# Altium schematic symbol library CapChipCer.SchLib: 45 symbols
Pins are listed as number, name and electrical type; pins without a type are passive.

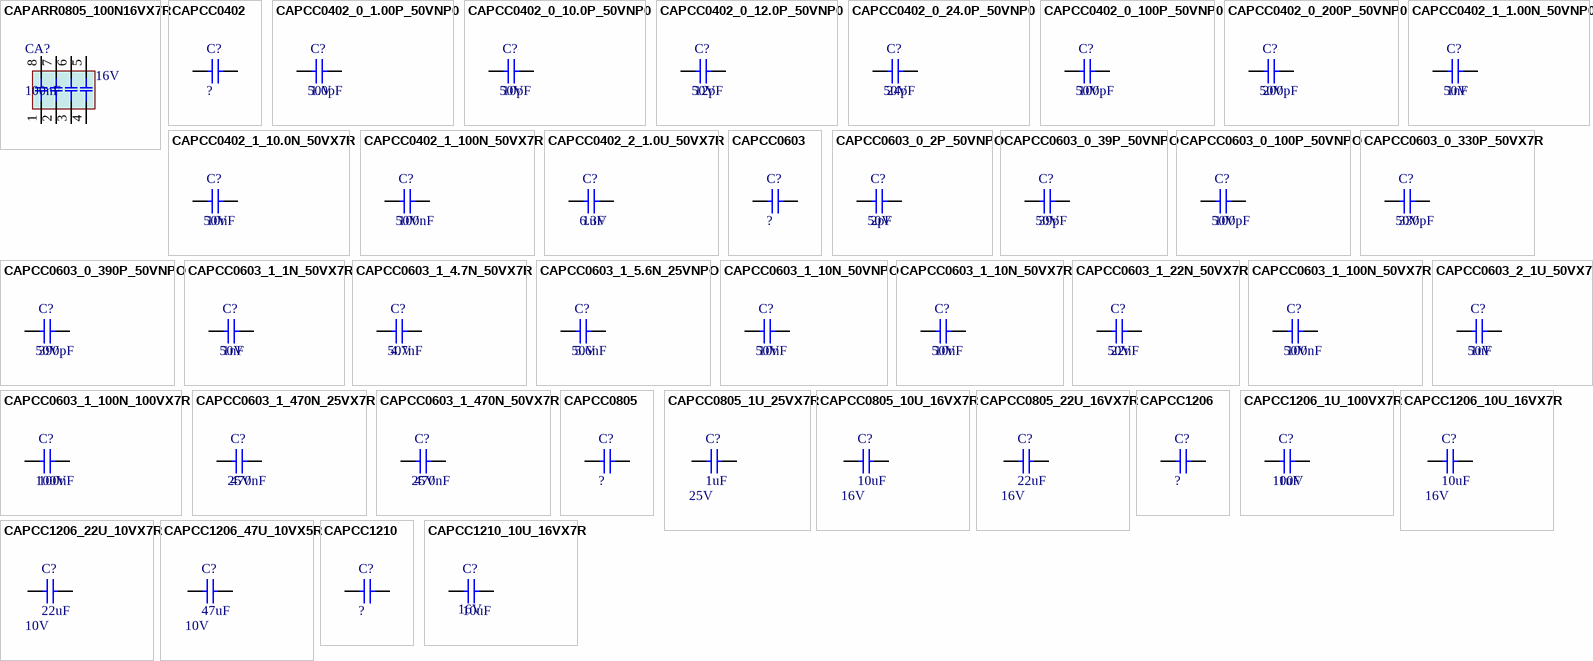
[diagram p0: symbols CAPARR0805_100N16VX7R to CAPCC1210_10U_16VX7R]

## CAPARR0805_100N16VX7R
designator CA?, comment 100nF  Voltage rating: 16V
Capacitor chip ceramic array(x4) 0805 16V X7R; Manufacturer: Murata; Manufacturer No: GNM214R71C104MA01D; Tech: SMDR; Package: Cap Chip Array 0805; Supplier 1: Newark; Supplier Part Number 1: 97K0564; Supplier 2: Digi-Key; Supplier Part Number 2: 490-6082-1-ND; Supplier 3: Mouser; Supplier Part Number 3: 81-GNM214R71C104MA1D
footprint CCAR0805 (Chip capacitor  array 0805)
pins: 1, 2, 3, 4, 5, 6, 7, 8

## CAPCC0402
designator C?, comment ?
Capacitor chip ceramic 0402; Comment2: xxV X7R; Sort: 210; Tech: SMDR; Package: Cap Chip 0402; Price: 0
footprint CC0402-1 (Chip kondenzator 0402)
signal-integrity model Model Name (Model Description)
footprint CC0402RF1 (Chip capacitor 0402 RF pad)
footprint CC0402RF1R (Chip capacitor 0402 RF ROUND pad)
pins: 1, 2

## CAPCC0402_0_1.00P_50VNP0
designator C?, comment 1.0pF  Voltage rating: 50V
Capacitor chip ceramic 0402 50V NPO; Manufacturer: Murata; Manufacturer No: GRM1555C1H1R0CA01D; Tech: SMDR; Package: Cap Chip 0402; Supplier 1: Digi-Key; Supplier Part Number 1: 490-3199-1-ND; Supplier 2: Newark; Supplier Part Number 2: 48W5732; Supplier 3: Mouser; Supplier Part Number 3: 81-GRM1555C1H1R0CA1D
signal-integrity model Model Name (Model Description)
footprint CC0402RF1 (Chip capacitor 0402 RF pad)
footprint CC0402RF1R (Chip capacitor 0402 RF ROUND pad)
footprint CC0402N1R (Chip capacitor 0402 ROUND pad)
footprint CC0402N1X (Chip capacitor 0402)
pins: 1, 2

## CAPCC0402_0_10.0P_50VNP0
designator C?, comment 10pF  Voltage rating: 50V
Capacitor chip ceramic 0402 50V NPO; Manufacturer: TDK; Manufacturer No: C1005C0G1H100D050BA; Tech: SMDR; Package: Cap Chip 0402; Supplier 1: Newark; Supplier Part Number 1: 90R7558; Supplier 2: Mouser; Supplier Part Number 2: 810-C1005C0G1H100D; Supplier 3: Digi-Key; Supplier Part Number 3: 445-1235-1-ND
signal-integrity model Model Name (Model Description)
footprint CC0402RF1 (Chip capacitor 0402 RF pad)
footprint CC0402RF1R (Chip capacitor 0402 RF ROUND pad)
footprint CC0402N1R (Chip capacitor 0402 ROUND pad)
footprint CC0402N1X (Chip capacitor 0402)
pins: 1, 2

## CAPCC0402_0_12.0P_50VNP0
designator C?, comment 12pF  Voltage rating: 50V
Capacitor chip ceramic 0402 50V NPO; Manufacturer: Johanson; Manufacturer No: 500R07S120GV4T; Tech: SMDR; Package: Cap Chip 0402; Supplier 1: Newark; Supplier Part Number 1: 41M1566; Supplier 2: Digi-Key; Supplier Part Number 2: 712-1256-1-ND; Supplier 3: Mouser; Supplier Part Number 3: 609-500R07S120GV4T
signal-integrity model Model Name (Model Description)
footprint CC0402RF1 (Chip capacitor 0402 RF pad)
footprint CC0402RF1R (Chip capacitor 0402 RF ROUND pad)
footprint CC0402N1R (Chip capacitor 0402 ROUND pad)
footprint CC0402N1X (Chip capacitor 0402)
pins: 1, 2

## CAPCC0402_0_24.0P_50VNP0
designator C?, comment 24pF  Voltage rating: 50V
Capacitor chip ceramic 0402 50V NPO; Manufacturer: Murata; Manufacturer No: GRM1555C1H240GA01D; Tech: SMDR; Package: Cap Chip 0402; Supplier 1: Mouser; Supplier Part Number 1: 81-GRM1555C1H240GA1D; Supplier 2: Digi-Key; Supplier Part Number 2: 490-6221-1-ND
signal-integrity model Model Name (Model Description)
footprint CC0402RF1 (Chip capacitor 0402 RF pad)
footprint CC0402RF1R (Chip capacitor 0402 RF ROUND pad)
footprint CC0402N1R (Chip capacitor 0402 ROUND pad)
footprint CC0402N1X (Chip capacitor 0402)
pins: 1, 2

## CAPCC0402_0_100P_50VNP0
designator C?, comment 100pF  Voltage rating: 50V
Capacitor chip ceramic 0402 50V NPO; Manufacturer: Murata; Manufacturer No: GRM1555C1H101JA01D; Tech: SMDR; Package: Cap Chip 0402; Supplier 1: Mouser; Supplier Part Number 1: 81-GRM1555C1H101JA1D; Supplier 2: Newark; Supplier Part Number 2: 48W5738; Supplier 3: Digi-Key; Supplier Part Number 3: 490-5922-1-ND
signal-integrity model Model Name (Model Description)
footprint CC0402RF1 (Chip capacitor 0402 RF pad)
footprint CC0402RF1R (Chip capacitor 0402 RF ROUND pad)
footprint CC0402N1R (Chip capacitor 0402 ROUND pad)
footprint CC0402N1X (Chip capacitor 0402)
pins: 1, 2

## CAPCC0402_0_200P_50VNP0
designator C?, comment 200pF  Voltage rating: 50V
Capacitor chip ceramic 0402 50V NPO; Manufacturer: Murata; Manufacturer No: GRM1555C1H201JA01D; Tech: SMDR; Package: Cap Chip 0402; Supplier 1: Digi-Key; Supplier Part Number 1: 490-3232-1-ND; Supplier 2: Newark; Supplier Part Number 2: 67R4594; Supplier 3: Mouser; Supplier Part Number 3: 81-GRM1555C1H201JA1D
signal-integrity model Model Name (Model Description)
footprint CC0402RF1 (Chip capacitor 0402 RF pad)
footprint CC0402RF1R (Chip capacitor 0402 RF ROUND pad)
footprint CC0402N1R (Chip capacitor 0402 ROUND pad)
footprint CC0402N1X (Chip capacitor 0402)
pins: 1, 2

## CAPCC0402_1_1.00N_50VNP0
designator C?, comment 1nF  Voltage rating: 50V
Capacitor chip ceramic 0402 50V NPO; Manufacturer: Murata; Manufacturer No: GRM1555C1H102JA01D; Tech: SMDR; Package: Cap Chip 0402; Supplier 1: Newark; Supplier Part Number 1: 38K1651; Supplier 2: Mouser; Supplier Part Number 2: 81-GRM1555C1H102JA1D; Supplier 3: Digi-Key; Supplier Part Number 3: 490-3244-1-ND
signal-integrity model Model Name (Model Description)
footprint CC0402RF1 (Chip capacitor 0402 RF pad)
footprint CC0402RF1R (Chip capacitor 0402 RF ROUND pad)
footprint CC0402N1R (Chip capacitor 0402 ROUND pad)
footprint CC0402N1X (Chip capacitor 0402)
pins: 1, 2

## CAPCC0402_1_10.0N_50VX7R
designator C?, comment 10nF  Voltage rating: 50V
Capacitor chip ceramic 0402 50V X7R; Manufacturer: Murata; Manufacturer No: GRM155R71H103KA88J; Tech: SMDR; Package: Cap Chip 0402; Supplier 1: Mouser; Supplier Part Number 1: 81-GRM155R71H103KA8J; Supplier 2: Newark; Supplier Part Number 2: 14T3284; Supplier 3: Digi-Key; Supplier Part Number 3: 490-6351-1-ND
signal-integrity model Model Name (Model Description)
footprint CC0402RF1 (Chip capacitor 0402 RF pad)
footprint CC0402RF1R (Chip capacitor 0402 RF ROUND pad)
footprint CC0402N1R (Chip capacitor 0402 ROUND pad)
footprint CC0402N1X (Chip capacitor 0402)
pins: 1, 2

## CAPCC0402_1_100N_50VX7R
designator C?, comment 100nF  Voltage rating: 50V
Capacitor chip ceramic 0402 50V X7R; Manufacturer: TDK; Manufacturer No: C1005X7R1H104K050BB; Tech: SMDR; Package: Cap Chip 0402; Supplier 1: Mouser; Supplier Part Number 1: 810-C1005X7R1H104K; Supplier 2: Digi-Key; Supplier Part Number 2: 445-5932-1-ND; Supplier 3: Newark; Supplier Part Number 3: 04X3230
signal-integrity model Model Name (Model Description)
footprint CC0402RF1 (Chip capacitor 0402 RF pad)
footprint CC0402RF1R (Chip capacitor 0402 RF ROUND pad)
footprint CC0402N1R (Chip capacitor 0402 ROUND pad)
footprint CC0402N1X (Chip capacitor 0402)
pins: 1, 2

## CAPCC0402_2_1.0U_50VX7R
designator C?, comment 1uF  Voltage rating: 6.3V
Capacitor chip ceramic 0402 6.3V X7R; Manufacturer: TDK; Manufacturer No: GRM155R70J105KA12D; Tech: SMDR; Package: Cap Chip 0402; Supplier 1: Mouser; Supplier Part Number 1: 81-GRM155R70J105KA2D; Supplier 2: Digi-Key; Supplier Part Number 2: 490-10024-6-ND
signal-integrity model Model Name (Model Description)
footprint CC0402RF1 (Chip capacitor 0402 RF pad)
footprint CC0402RF1R (Chip capacitor 0402 RF ROUND pad)
footprint CC0402N1R (Chip capacitor 0402 ROUND pad)
footprint CC0402N1X (Chip capacitor 0402)
pins: 1, 2

## CAPCC0603
designator C?, comment ?
Capacitor chip ceramic 0603; Comment2: xxV X7R; Sort: 210; Tech: SMDR; Package: Cap Chip 0603; Price: 0
signal-integrity model Model Name (Model Description)
footprint CC0603-1 (Chip  capacitor  0603 (1608))
pins: 1, 2

## CAPCC0603_0_2P_50VNPO
designator C?, comment 2pF  Voltage rating: 50V
Capacitor chip ceramic 0603 50V NPO 5%; Manufacturer: TDK; Manufacturer No: C1608C0G1H020C080AA; Tech: SMDR; Package: Cap Chip 0603; Supplier 1: Mouser; Supplier Part Number 1: 810-C1608C0G1H020C; Supplier 2: Digi-Key; Supplier Part Number 2: 445-5017-6-ND; Supplier 3: Newark; Supplier Part Number 3: 04X3237
signal-integrity model Model Name (Model Description)
footprint CC0603N1R (Chip capacitor 0603 ROUND PAD)
footprint CC0603N1X (Chip capacitor 0603)
footprint CC0603RF1 (Chip capacitor 0603 RF pad)
footprint CC0603RF1R (Chip capacitor 0603 RF pad ROUNDED PAD)
pins: 1, 2

## CAPCC0603_0_39P_50VNPO
designator C?, comment 39pF  Voltage rating: 50V
Capacitor chip ceramic 0603 50V NPO 5%; Manufacturer: TDK; Manufacturer No: C1608C0G1H390J080AA; Tech: SMDR; Package: Cap Chip 0603; Supplier 1: Mouser; Supplier Part Number 1: 810-C1608C0G1H390J; Supplier 2: Digi-Key; Supplier Part Number 2: 445-1276-1-ND; Supplier 3: Newark; Supplier Part Number 3: 22C1031
signal-integrity model Model Name (Model Description)
footprint CC0603N1R (Chip capacitor 0603 ROUND PAD)
footprint CC0603N1X (Chip capacitor 0603)
footprint CC0603RF1 (Chip capacitor 0603 RF pad)
footprint CC0603RF1R (Chip capacitor 0603 RF pad ROUNDED PAD)
pins: 1, 2

## CAPCC0603_0_100P_50VNPO
designator C?, comment 100pF  Voltage rating: 50V
Capacitor chip ceramic 0603 50V NPO; Manufacturer: Murata; Manufacturer No: GRM1885C1H101JA01D; Tech: SMDR; Package: Cap Chip 0603; Supplier 1: Mouser; Supplier Part Number 1: 81-GRM39C101J50; Supplier 2: Digi-Key; Supplier Part Number 2: 490-1427-1-ND; Supplier 3: Newark; Supplier Part Number 3: 38K1677
signal-integrity model Model Name (Model Description)
footprint CC0603N1R (Chip capacitor 0603 ROUND PAD)
footprint CC0603N1X (Chip capacitor 0603)
footprint CC0603RF1 (Chip capacitor 0603 RF pad)
footprint CC0603RF1R (Chip capacitor 0603 RF pad ROUNDED PAD)
pins: 1, 2

## CAPCC0603_0_330P_50VX7R
designator C?, comment 330pF  Voltage rating: 50V
Capacitor chip ceramic 0603 50V X7R 10%; Manufacturer: Murata; Manufacturer No: GRM188R71H331KA01D; Tech: SMDR; Package: Cap Chip 0603; Supplier 1: Mouser; Supplier Part Number 1: 81-GRM188R71H331KA01; Supplier 2: Digi-Key; Supplier Part Number 2: 490-1486-1-ND
signal-integrity model Model Name (Model Description)
footprint CC0603N1R (Chip capacitor 0603 ROUND PAD)
footprint CC0603N1X (Chip capacitor 0603)
footprint CC0603RF1 (Chip capacitor 0603 RF pad)
footprint CC0603RF1R (Chip capacitor 0603 RF pad ROUNDED PAD)
pins: 1, 2

## CAPCC0603_0_390P_50VNPO
designator C?, comment 390pF  Voltage rating: 50V
Capacitor chip ceramic 0603 50V NPO 5%; Manufacturer: Kemet; Manufacturer No: C0603C391J5GACTU; Tech: SMDR; Package: Cap Chip 0603; Supplier 1: Newark; Supplier Part Number 1: 64K2862; Supplier 2: Digi-Key; Supplier Part Number 2: 399-1069-1-ND; Supplier 3: Mouser; Supplier Part Number 3: 80-C0603C391J5G
signal-integrity model Model Name (Model Description)
footprint CC0603N1R (Chip capacitor 0603 ROUND PAD)
footprint CC0603N1X (Chip capacitor 0603)
footprint CC0603RF1 (Chip capacitor 0603 RF pad)
footprint CC0603RF1R (Chip capacitor 0603 RF pad ROUNDED PAD)
pins: 1, 2

## CAPCC0603_1_1N_50VX7R
designator C?, comment 1nF  Voltage rating: 50V
Capacitor chip ceramic 0603 50V X7R; Manufacturer: Murata; Manufacturer No: GRM188R71H102KA01D; Tech: SMDR; Package: Cap Chip 0603; Supplier 1: Mouser; Supplier Part Number 1: 81-GRM39X102K050; Supplier 2: Newark; Supplier Part Number 2: 38K1668; Supplier 3: Digi-Key; Supplier Part Number 3: 490-1494-1-ND
signal-integrity model Model Name (Model Description)
footprint CC0603N1R (Chip capacitor 0603 ROUND PAD)
footprint CC0603N1X (Chip capacitor 0603)
footprint CC0603RF1 (Chip capacitor 0603 RF pad)
footprint CC0603RF1R (Chip capacitor 0603 RF pad ROUNDED PAD)
pins: 1, 2

## CAPCC0603_1_4.7N_50VX7R
designator C?, comment 4.7nF  Voltage rating: 50V
Capacitor chip ceramic 0603 50V X7R; Manufacturer: Murata; Manufacturer No: GRM188R71H472KA01D; Tech: SMDR; Package: Cap Chip 0603; Supplier 1: Digi-Key; Supplier Part Number 1: 490-1506-6-ND; Supplier 2: Mouser; Supplier Part Number 2: 81-GRM39X472K50D; Supplier 3: Newark; Supplier Part Number 3: 68R4808
signal-integrity model Model Name (Model Description)
footprint CC0603N1R (Chip capacitor 0603 ROUND PAD)
footprint CC0603N1X (Chip capacitor 0603)
footprint CC0603RF1 (Chip capacitor 0603 RF pad)
footprint CC0603RF1R (Chip capacitor 0603 RF pad ROUNDED PAD)
pins: 1, 2

## CAPCC0603_1_5.6N_25VNPO
designator C?, comment 5.6nF  Voltage rating: 50V
Capacitor chip ceramic 0603 25V NPO; Manufacturer: TDK; Manufacturer No: C1608C0G1E562J080AA; Tech: SMDR; Package: Cap Chip 0603; Supplier 1: Newark; Supplier Part Number 1: 90R7620; Supplier 2: Digi-Key; Supplier Part Number 2: 445-2666-1-ND; Supplier 3: Mouser; Supplier Part Number 3: 810-C1608C0G1E562J
signal-integrity model Model Name (Model Description)
footprint CC0603N1R (Chip capacitor 0603 ROUND PAD)
footprint CC0603N1X (Chip capacitor 0603)
footprint CC0603RF1 (Chip capacitor 0603 RF pad)
footprint CC0603RF1R (Chip capacitor 0603 RF pad ROUNDED PAD)
pins: 1, 2

## CAPCC0603_1_10N_50VNPO
designator C?, comment 10nF  Voltage rating: 50V
Capacitor chip ceramic 0603 50V NPO; Manufacturer: TDK; Manufacturer No: CGA3E2C0G1H103J080AA; Tech: SMDR; Package: Cap Chip 0603; Supplier 1: Mouser; Supplier Part Number 1: 810-CGA3E2C0G1H103J; Supplier 2: Digi-Key; Supplier Part Number 2: 445-6916-1-ND
signal-integrity model Model Name (Model Description)
footprint CC0603N1R (Chip capacitor 0603 ROUND PAD)
footprint CC0603N1X (Chip capacitor 0603)
footprint CC0603RF1 (Chip capacitor 0603 RF pad)
footprint CC0603RF1R (Chip capacitor 0603 RF pad ROUNDED PAD)
pins: 1, 2

## CAPCC0603_1_10N_50VX7R
designator C?, comment 10nF  Voltage rating: 50V
Capacitor chip ceramic 0603 50V X7R; Manufacturer: Murata; Manufacturer No: GRM188R71H103KA01D; Tech: SMDR; Package: Cap Chip 0603; Supplier 1: Mouser; Supplier Part Number 1: 81-GRM39X103K50D; Supplier 2: Digi-Key; Supplier Part Number 2: 490-1512-1-ND; Supplier 3: Newark; Supplier Part Number 3: 38K1669
signal-integrity model Model Name (Model Description)
footprint CC0603N1R (Chip capacitor 0603 ROUND PAD)
footprint CC0603N1X (Chip capacitor 0603)
footprint CC0603RF1 (Chip capacitor 0603 RF pad)
footprint CC0603RF1R (Chip capacitor 0603 RF pad ROUNDED PAD)
pins: 1, 2

## CAPCC0603_1_22N_50VX7R
designator C?, comment 22nF  Voltage rating: 50V
Capacitor chip ceramic 0603 50V X7R; Manufacturer: TDK; Manufacturer No: C1608X7R1H223K080AA; Tech: SMDR; Package: Cap Chip 0603; Supplier 1: Mouser; Supplier Part Number 1: 810-C1608X7R1H223K; Supplier 2: Digi-Key; Supplier Part Number 2: 445-1312-6-ND
signal-integrity model Model Name (Model Description)
footprint CC0603N1R (Chip capacitor 0603 ROUND PAD)
footprint CC0603N1X (Chip capacitor 0603)
footprint CC0603RF1 (Chip capacitor 0603 RF pad)
footprint CC0603RF1R (Chip capacitor 0603 RF pad ROUNDED PAD)
pins: 1, 2

## CAPCC0603_1_100N_50VX7R
designator C?, comment 100nF  Voltage rating: 50V
Capacitor chip ceramic 0603 50V X7R; Manufacturer: Murata; Manufacturer No: GRM188R71H104KA93D; Tech: SMDR; Package: Cap Chip 0603; Supplier 1: Mouser; Supplier Part Number 1: 81-GRM39X104K50D; Supplier 2: Digi-Key; Supplier Part Number 2: 490-1519-1-ND; Supplier 3: Newark; Supplier Part Number 3: 38K1670
signal-integrity model Model Name (Model Description)
footprint CC0603N1R (Chip capacitor 0603 ROUND PAD)
footprint CC0603N1X (Chip capacitor 0603)
footprint CC0603RF1 (Chip capacitor 0603 RF pad)
footprint CC0603RF1R (Chip capacitor 0603 RF pad ROUNDED PAD)
pins: 1, 2

## CAPCC0603_1_100N_100VX7R
designator C?, comment 100nF  Voltage rating: 100V
Capacitor chip ceramic 0603 100V X7R; Manufacturer: Murata; Manufacturer No: GRM188R72A104KA35D; Tech: SMDR; Package: Cap Chip 0603; Supplier 1: Digi-Key; Supplier Part Number 1: 490-3285-1-ND; Supplier 2: Mouser; Supplier Part Number 2: 81-GRM188R72A104KA35
signal-integrity model Model Name (Model Description)
footprint CC0603N1R (Chip capacitor 0603 ROUND PAD)
footprint CC0603N1X (Chip capacitor 0603)
footprint CC0603RF1 (Chip capacitor 0603 RF pad)
footprint CC0603RF1R (Chip capacitor 0603 RF pad ROUNDED PAD)
pins: 1, 2

## CAPCC0603_1_470N_25VX7R
designator C?, comment 470nF  Voltage rating: 25V
Capacitor chip ceramic 0603 50V X7R; Manufacturer: TDK; Manufacturer No: TMK107B7474KA-TR; Tech: SMDR; Package: Cap Chip 0603; Supplier 1: Mouser; Supplier Part Number 1: 963-TMK107B7474KA-TR; Supplier 2: Digi-Key; Supplier Part Number 2: 587-2670-6-ND
signal-integrity model Model Name (Model Description)
footprint CC0603N1R (Chip capacitor 0603 ROUND PAD)
footprint CC0603N1X (Chip capacitor 0603)
footprint CC0603RF1 (Chip capacitor 0603 RF pad)
footprint CC0603RF1R (Chip capacitor 0603 RF pad ROUNDED PAD)
pins: 1, 2

## CAPCC0603_1_470N_50VX7R
designator C?, comment 470nF  Voltage rating: 25V
Capacitor chip ceramic 0603 25V X7R; Manufacturer: Murata; Manufacturer No: GRM188R71E474KA12D; Tech: SMDR; Package: Cap Chip 0603; Supplier 1: Newark; Supplier Part Number 1: 72W1809; Supplier 2: Mouser; Supplier Part Number 2: 81-GRM188R71E474KA12; Supplier 3: Digi-Key; Supplier Part Number 3: 490-3291-1-ND
signal-integrity model Model Name (Model Description)
footprint CC0603N1R (Chip capacitor 0603 ROUND PAD)
footprint CC0603N1X (Chip capacitor 0603)
footprint CC0603RF1 (Chip capacitor 0603 RF pad)
footprint CC0603RF1R (Chip capacitor 0603 RF pad ROUNDED PAD)
pins: 1, 2

## CAPCC0603_2_1U_50VX7R
designator C?, comment 1uF  Voltage rating: 50V
Capacitor chip ceramic 0603 50V X7R; Manufacturer: Murata; Manufacturer No: GRM188R71E105KA12D; Tech: SMDR; Package: Cap Chip 0603; Supplier 1: Mouser; Supplier Part Number 1: 81-GRM188R71E105KA2D; Supplier 2: Newark; Supplier Part Number 2: 24R6337; Supplier 3: Digi-Key; Supplier Part Number 3: 490-5307-1-ND
signal-integrity model Model Name (Model Description)
footprint CC0603N1R (Chip capacitor 0603 ROUND PAD)
footprint CC0603N1X (Chip capacitor 0603)
footprint CC0603RF1 (Chip capacitor 0603 RF pad)
footprint CC0603RF1R (Chip capacitor 0603 RF pad ROUNDED PAD)
pins: 1, 2

## CAPCC0805
designator C?, comment ?
Capacitor chip ceramic 0805; Comment2: xxV X7R; Sort: 210; Tech: SMDR; Package: Cap Chip 0805; Price: 0
signal-integrity model Model Name (Model Description)
footprint CC0805-1 (Chip capacitor  0805)
pins: 1, 2

## CAPCC0805_1U_25VX7R
designator C?, comment 1uF  Voltage rating: 25V
Capacitor chip ceramic 0805 25V X7R; Manufacturer: Kemet; Manufacturer No: C0805C105K3RACTU; Tech: SMDR; Package: Cap Chip 0805; Supplier 1: Newark; Supplier Part Number 1: 93K6001; Supplier 2: Mouser; Supplier Part Number 2: 80-C0805C105K3R; Supplier 3: Digi-Key; Supplier Part Number 3: 399-8004-1-ND
signal-integrity model Model Name (Model Description)
footprint CC0805N1X (Chip capacitor  0805)
footprint CC0805N1R (Chip capacitor  0805 ROUND PAD)
pins: 1, 2

## CAPCC0805_10U_16VX7R
designator C?, comment 10uF  Voltage rating: 16V
Capacitor chip ceramic 0805 16V X7R; Manufacturer: Murata; Manufacturer No: GRM21BR61C106KE15L; Tech: SMDR; Package: Cap Chip 0805; Supplier 1: Digi-Key; Supplier Part Number 1: 490-3886-1-ND; Supplier 2: Mouser; Supplier Part Number 2: 81-GRM21BR61C106KE15; Supplier 3: Newark; Supplier Part Number 3: 35R0687
signal-integrity model Model Name (Model Description)
footprint CC0805N1X (Chip capacitor  0805)
footprint CC0805N1R (Chip capacitor  0805 ROUND PAD)
pins: 1, 2

## CAPCC0805_22U_16VX7R
designator C?, comment 22uF  Voltage rating: 16V
Capacitor chip ceramic 0805 16V X7R; Manufacturer: Murata; Manufacturer No: GRM219R61C226ME15L; Tech: SMDR; Package: Cap Chip 0805; Supplier 1: Digi-Key; Supplier Part Number 1: 490-9952-1-ND; Supplier 2: Newark; Supplier Part Number 2: 04X3277; Supplier 3: Mouser; Supplier Part Number 3: 810-C2012X5R1C226M
signal-integrity model Model Name (Model Description)
footprint CC0805N1X (Chip capacitor  0805)
footprint CC0805N1R (Chip capacitor  0805 ROUND PAD)
pins: 1, 2

## CAPCC1206
designator C?, comment ?
Capacitor chip ceramic 1206; Comment2: xxV X7R; Sort: 210; Tech: SMDR; Package: Cap Chip 1206; Price: 0
signal-integrity model Model Name (Model Description)
footprint CC1206-1 (Chip capacitor 1206 (3216))
pins: 1, 2

## CAPCC1206_1U_100VX7R
designator C?, comment 1uF  Voltage rating: 100V
Capacitor chip ceramic 1206 100V X7R; Manufacturer: TDK; Manufacturer No: C3216X7R2A105K160AA; Tech: SMDR; Package: Cap Chip 1206; Supplier 1: Digi-Key; Supplier Part Number 1: 445-4467-1-ND; Supplier 2: Mouser; Supplier Part Number 2: 810-C3216X7R2A105K
signal-integrity model Model Name (Model Description)
footprint CC1206N1X (Chip capacitor 1206)
footprint CC1206N1R (Chip capacitor 1206 ROUNDED PAD)
pins: 1, 2

## CAPCC1206_10U_16VX7R
designator C?, comment 10uF  Voltage rating: 16V
Capacitor chip ceramic 1206 16V X7R; Manufacturer: TDK; Manufacturer No: C3216X7R1C106M160AC; Tech: SMDR; Package: Cap Chip 1206; Supplier 1: Newark; Supplier Part Number 1: 90R7789; Supplier 2: Mouser; Supplier Part Number 2: 810-C3216X7R1C106M; Supplier 3: Digi-Key; Supplier Part Number 3: 445-1601-1-ND
signal-integrity model Model Name (Model Description)
footprint CC1206N1X (Chip capacitor 1206)
footprint CC1206N1R (Chip capacitor 1206 ROUNDED PAD)
pins: 1, 2

## CAPCC1206_22U_10VX7R
designator C?, comment 22uF  Voltage rating: 10V
Capacitor chip ceramic 1206 10V X7R; Manufacturer: Taiyo-Yuden; Manufacturer No: LMK316AB7226ML-TR; Tech: SMDR; Package: Cap Chip 1206; Supplier 1: Newark; Supplier Part Number 1: 29T3557; Supplier 2: Mouser; Supplier Part Number 2: 963-LMK316AB7226ML; Supplier 3: Digi-Key; Supplier Part Number 3: 587-2782-1-ND
signal-integrity model Model Name (Model Description)
footprint CC1206N1X (Chip capacitor 1206)
footprint CC1206N1R (Chip capacitor 1206 ROUNDED PAD)
pins: 1, 2

## CAPCC1206_47U_10VX5R
designator C?, comment 47uF  Voltage rating: 10V
Capacitor chip ceramic 1206 10V X5R; Manufacturer: Murata; Manufacturer No: GRM31CR61A476ME15L; Tech: SMDR; Package: Cap Chip 1206; Supplier 1: Mouser; Supplier Part Number 1: 81-GRM31CR61A476ME5L; Supplier 2: Digi-Key; Supplier Part Number 2: 490-5528-1-ND; Supplier 3: Newark; Supplier Part Number 3: 94M5674
signal-integrity model Model Name (Model Description)
footprint CC1206N1X (Chip capacitor 1206)
footprint CC1206N1R (Chip capacitor 1206 ROUNDED PAD)
pins: 1, 2

## CAPCC1210
designator C?, comment ?
Capacitor chip ceramic 1210; Comment2: xxV X7R; Sort: 210; Tech: SMDR; Package: Cap Chip 1210; Price: 0
signal-integrity model Model Name (Model Description)
footprint CC1210-1 (Chip capacitor 1210 (3225))
pins: 1, 2

## CAPCC1210_10U_16VX7R
designator C?, comment 10uF  Voltage rating: 16V
Capacitor chip ceramic 1210 16V X7R; Manufacturer: TDK; Manufacturer No: C3225X7R1C106K200AB; Tech: SMDR; Package: Cap Chip 1210; Supplier 1: Mouser; Supplier Part Number 1: 810-C3225X7R1C106K; Supplier 2: Digi-Key; Supplier Part Number 2: 445-3943-1-ND; Supplier 3: Newark; Supplier Part Number 3: 90R7826
signal-integrity model Model Name (Model Description)
footprint CC1210N1R (Chip capacitor 1210 ROUNDED PAD)
footprint CC1210N1X (Chip capacitor 1210)
pins: 1, 2

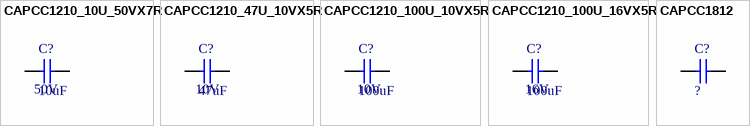
[diagram p1: symbols CAPCC1210_10U_50VX7R to CAPCC1812]

## CAPCC1210_10U_50VX7R
designator C?, comment 10uF  Voltage rating: 50V
Capacitor chip ceramic 1210 50V X7R; Manufacturer: TDK; Manufacturer No: GRM32ER71H106KA12L; Tech: SMDR; Package: Cap Chip 1210; Supplier 1: Newark; Supplier Part Number 1: 29X1411; Supplier 2: Mouser; Supplier Part Number 2: 81-GRM32ER71H106KA2L; Supplier 3: Digi-Key; Supplier Part Number 3: 490-6544-1-ND
signal-integrity model Model Name (Model Description)
footprint CC1210N1R (Chip capacitor 1210 ROUNDED PAD)
footprint CC1210N1X (Chip capacitor 1210)
pins: 1, 2

## CAPCC1210_47U_10VX5R
designator C?, comment 47uF  Voltage rating: 10V
Capacitor chip ceramic 1210 10V X5R; Manufacturer: TDK; Manufacturer No: C3225X5R1A476M250AC; Tech: SMDR; Package: Cap Chip 1210; Supplier 1: Mouser; Supplier Part Number 1: 810-C3225X5R1A476M; Supplier 2: Digi-Key; Supplier Part Number 2: 445-6711-1-ND; Supplier 3: Newark; Supplier Part Number 3: 04X3304
signal-integrity model Model Name (Model Description)
footprint CC1210N1R (Chip capacitor 1210 ROUNDED PAD)
footprint CC1210N1X (Chip capacitor 1210)
pins: 1, 2

## CAPCC1210_100U_10VX5R
designator C?, comment 100uF  Voltage rating: 10V
Capacitor chip ceramic 1210 10V X5R; Manufacturer: Murata; Manufacturer No: GRM32ER61A107ME20L; Tech: SMDR; Package: Cap Chip 1210; Supplier 1: Newark; Supplier Part Number 1: 87X8674; Supplier 2: Digi-Key; Supplier Part Number 2: 490-9969-1-ND; Supplier 3: Mouser; Supplier Part Number 3: 81-GRM32ER61A107ME0L
signal-integrity model Model Name (Model Description)
footprint CC1210N1R (Chip capacitor 1210 ROUNDED PAD)
footprint CC1210N1X (Chip capacitor 1210)
pins: 1, 2

## CAPCC1210_100U_16VX5R
designator C?, comment 100uF  Voltage rating: 16V
Capacitor chip ceramic 1210 16V X5R; Manufacturer: Kemet; Manufacturer No: C1210C107M4PAC7800; Tech: SMDR; Package: Cap Chip 1210; Supplier 1: Newark; Supplier Part Number 1: 32X8714; Supplier 2: Digi-Key; Supplier Part Number 2: 399-11270-1-ND
signal-integrity model Model Name (Model Description)
footprint CC1210N1R (Chip capacitor 1210 ROUNDED PAD)
footprint CC1210N1X (Chip capacitor 1210)
pins: 1, 2

## CAPCC1812
designator C?, comment ?
Capacitor chip ceramic 1812; Comment2: xxV X7R; Sort: 210; Tech: SMDR; Package: Cap Chip 1812; Price: 0
signal-integrity model Model Name (Model Description)
footprint CC1812N1R (Chip capacitor 1812 ROUNDED PAD)
footprint CC1812N1X (Chip capacitor 1812)
pins: 1, 2